# EAGLE library part PHB_1MM27_2X03_* (library _hhn_con_pinhead_box_1mm27)
Pin Header Box-Type, 1.27mm/0.5"/50mil Pitch, 2x03 Circuits Note: see library description for an important note about THT-version
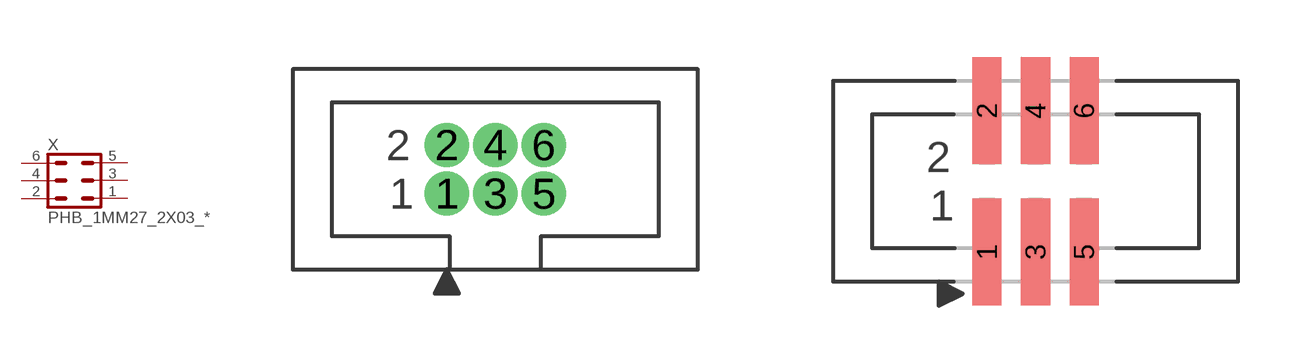
[diagram p18: symbol with the pads of PHB_1MM27_2X03_SNT; footprints PHB_1MM27_2X03_SNT, PHB_1MM27_2X03_SNS]

Designator prefix X

## PHB_1MM27_2X03_SNT  [PHB_1MM27_2X03_SNT]
1  1  pas
2  2  pas
3  3  pas
4  4  pas
5  5  pas
6  6  pas

## PHB_1MM27_2X03_SNS  [PHB_1MM27_2X03_SNS]
Pads as for PHB_1MM27_2X03_SNT

## Footprint PHB_1MM27_2X03_SNT (pad centres in mm)
Pin Header Box-Type, 1.27mm Pitch, 2x03 circuits, Straight, No Locking, THT Important Note regarding to THT-versions: see description of library
drill 0.65 round: 1 -1.27,-0.635; 2 -1.27,0.635; 3 0,-0.635; 4 0,0.635; 5 1.27,-0.635; 6 1.27,0.635

## Footprint PHB_1MM27_2X03_SNS (pad centres in mm)
Pin Header Box-Type, 1.27mm Pitch, 2x03 circuits, Straight, No Locking, SMT
smd 0.76 x 2.8: 1 -1.27,-1.85; 2 -1.27,1.85; 3 0,-1.85; 4 0,1.85; 5 1.27,-1.85; 6 1.27,1.85